# Altium schematic symbol library CPU_STM_080816.SchLib: 227 symbols (part 5 of 5)
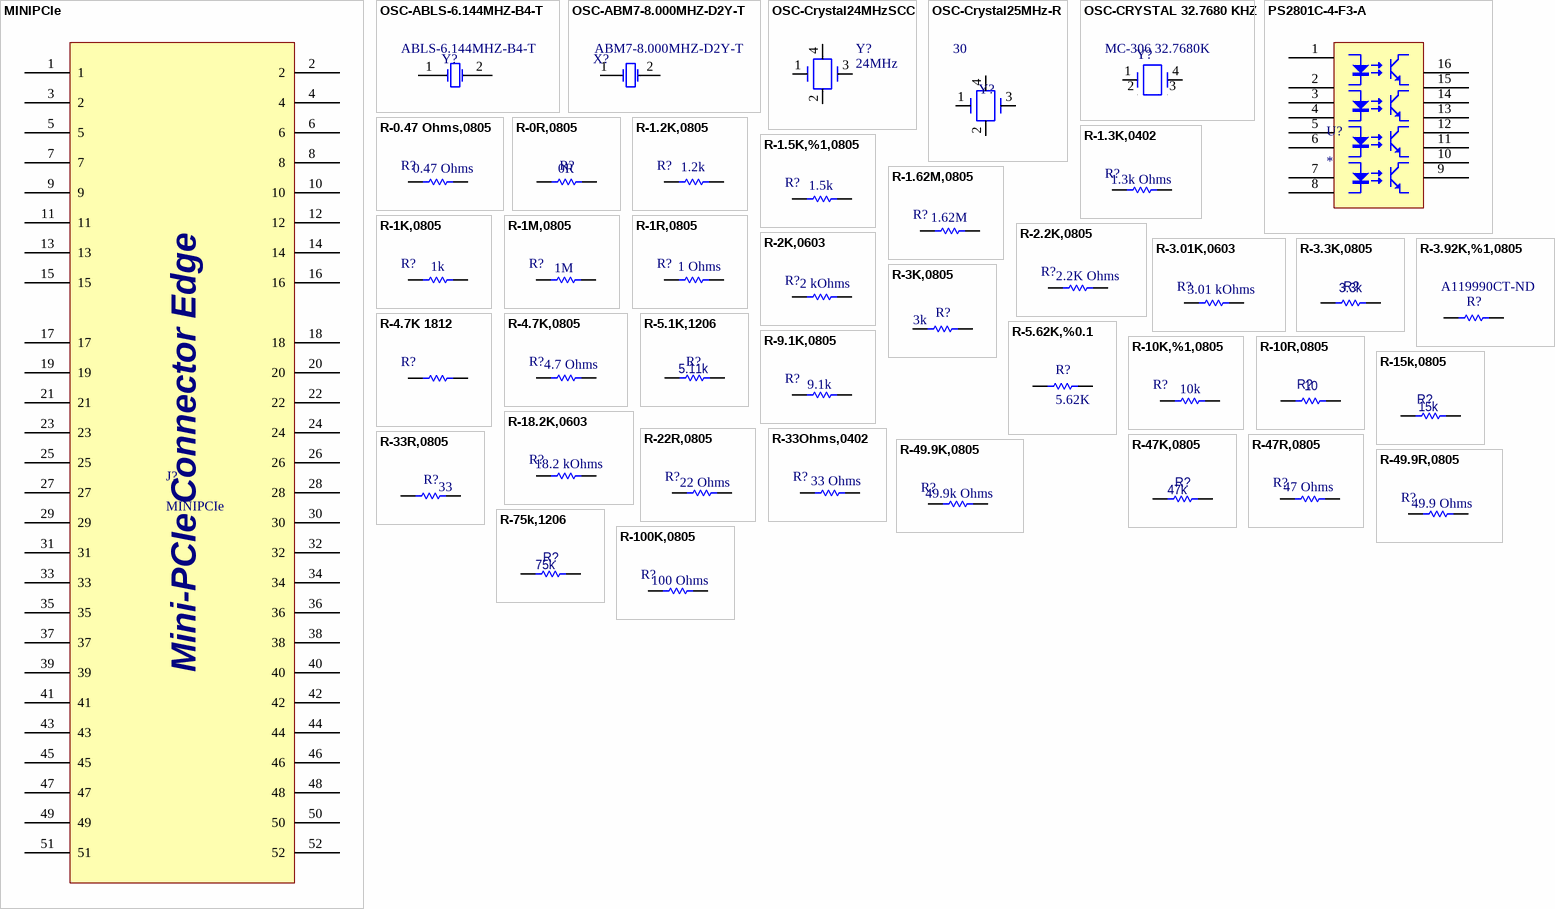
[diagram p15: symbols MINIPCIe to R-100K,0805]

## R-22R,0805
designator R?, comment 22 Ohms
PANASONIC - ERJP06F22R0V - RESISTOR, THICK FILM, 22 OHM, 0.5W, 1%; Product Range: PANASONIC - ERJ Series; Power Rating: 500; Resistor Case Style: 0805 [2012 Metric]; Temperature Coefficient: ± 300; Voltage Rating: 400; SVHC: No SVHC (16-Dec-2013); External Depth: 1.25; External Length / Height: 0.6; External Width: 2; Overload Voltage: 600; Reel Quantity: 5000; Resistor Mounting: SMD; Supplier 1: Farnell; Manufacturer: PANASONIC; Manufacturer Part Number: ERJP06F22R0V; RoHS: YES; Stock 1: 4425; Pricing 1: 25=0,139, 100=0,113, 500=0,0897, 1000=0,0676, 5000=0,065 (EUR); Resistance Tolerance: ± 1%; Resistor Element Material: Thick Film; Packaging: Cut Tape; MSL: -; No. of Pins: 2; Operating Temperature Max: 155; Operating Temperature Min: -55; Operating Temperature Range: -55°C to +155; Series: ERJP<!--FANDB--><div class="features-and-benefits-container"></div>; ComponentLink1URL: http://www.farnell.com/datasheets/1801181.pdf; ComponentLink1Description: http://www.farnell.com/datasheets/1801181.pdf; ComponentLink2URL: http://www.farnell.com/datasheets/1718548.pdf; ComponentLink2Description: http://www.farnell.com/datasheets/1718548.pdf; ComponentLink3URL: http://www.farnell.com/cad/1697897.zip; ComponentLink3Description: http://www.farnell.com/cad/1697897.zip; Supplier Part Number 1: 1750733; Resistance: 22 Ohms
footprint R0805
pins: 1, 2

## R-33Ohms,0402
designator R?  Resistance (Ohms): 33 Ohms
MULTICOMP - MC0805S8F330JT5E - RESISTOR, THICK FILM, 33 OHM, 125mW, 1%; Manufacturer: Panasonic Electronic Components; Manufacturer Part Number: ERJ-2GEJ330X; Tolerance: ±5%; Power (Watts): 0.1W, 1/10W; Temperature Coefficient: ±200ppm/°C; Supplier 1: Digi-Key; RoHS: RoHS Compliant; Category: Resistors; Stock 1: 1898945; Pricing 1: 1=0.1, 50=0.0106, 100=0.0078, 250=0.00596, 500=0.00476, 1000=0.0035, 5000=0.00251 (USD); Packaging: Digi-Reel®; Composition: Thick Film; Features: Automotive AEC-Q200; Operating Temperature: -55°C ~ 155°C; Package / Case: 0402 (1005 Metric); Supplier Device Package: 0402; Size / Dimension: 0.039" L x 0.020" W (1.00mm x 0.50mm); Height: 0.016" (0.40mm); Number of Terminations: 2; ComponentLink1URL: http://industrial.panasonic.com/www-cgi/jvcr13pz.cgi?E+PZ+3+AOA0001+ERJ2GEJ330X+7+WW; ComponentLink1Description: http://industrial.panasonic.com/www-cgi/jvcr13pz.cgi?E+PZ+3+AOA0001+ERJ2GEJ330X+7+WW; Supplier Part Number 1: P33JDKR-ND
footprint 0402
pins: 1, 2

## R-33R,0805
designator R?, comment Resistance (Ohms): 33  (hidden comment: CPF0805B33RE)
RES SMD 33 OHM 0.1% 1/10W 0805; Manufacturer: TE Connectivity AMP Connectors; Power (Watts): 0.1W, 1/10W; Temperature Coefficient: ±25ppm/°C; Supplier 1: Digi-Key; Manufacturer Part Number: CPF0805B33RE; RoHS: RoHS Compliant; Category: Resistors; Stock 1: 5000; Pricing 1: 5000=0.08708, 10000=0.08514, 25000=0.08224, 50000=0.08063, 125000=0.07985 (USD); Packaging: Tape & Reel (TR); Part Status: Active; Tolerance: ±0.1%; Composition: Thin Film; Features: -; Operating Temperature: -55°C ~ 155°C; Package / Case: 0805 (2012 Metric); Supplier Device Package: 0805; Size / Dimension: 0.079" L x 0.049" W (2.00mm x 1.25mm); Height: 0.026" (0.65mm); Number of Terminations: 2; ComponentLink1URL: http://www.te.com/commerce/DocumentDelivery/DDEController?Action=srchrtrv&DocNm=1773200&DocType=DS&DocLang=English; ComponentLink1Description: http://www.te.com/commerce/DocumentDelivery/DDEController?Action=srchrtrv&DocNm=1773200&DocType=DS&DocLang=English; Supplier Part Number 1: A119975TR-ND
footprint R0805
pins: 1, 2

## R-47K,0805
designator R?, comment Resistance (Ohms): 47k  (hidden comment: RES SMD 47K OHM)
RES SMD 47K OHM 1% 1/8W 0805; Manufacturer: Samsung Electro-Mechanics America, Inc.; Manufacturer Part Number: RC2012F473CS; Power (Watts): 0.125W, 1/8W; Temperature Coefficient: ±100ppm/°C; Regulator Topology: Positive Adjustable; Voltage - Output: 1.24 V ~ 15 V; Current - Output: 3A; Voltage - Dropout (Typical): 0.45V @ 3A; Number of Regulators: 1; Voltage - Input: 3 V ~ 16 V; Supplier 1: Digi-Key; RoHS: RoHS Compliant; Category: Resistors; Stock 1: 29088; Pricing 1: 1=0.1, 10=0.022, 25=0.016, 50=0.0124, 100=0.0091, 500=0.00554, 1000=0.00408 (USD); Packaging: Cut Tape (CT); Part Status: Active; Tolerance: ±1%; Composition: Thick Film; Features: Moisture Resistant; Operating Temperature: -55°C ~ 155°C; Package / Case: 0805 (2012 Metric); Supplier Device Package: 0805; Size / Dimension: 0.079" L x 0.049" W (2.00mm x 1.25mm); Height: 0.024" (0.60mm); Number of Terminations: 2; Failure Rate: -; ComponentLink1URL: http://media.digikey.com/pdf/Data%20Sheets/Samsung%20PDFs/RC_Series_ds.pdf; ComponentLink1Description: http://media.digikey.com/pdf/Data%20Sheets/Samsung%20PDFs/RC_Series_ds.pdf; Supplier Part Number 1: 1276-5377-1-ND; Current - Limit (Min): 3A; Mounting Type: Surface Mount; ComponentLink2URL: http://www.microchip.com/mymicrochip/filehandler.aspx?ddocname=en580808; ComponentLink2Description: http://www.microchip.com/mymicrochip/filehandler.aspx?ddocname=en580808
footprint R0805
pins: 1, 2

## R-47R,0805
designator R?, comment 47 Ohms
Thick Film Resistors - SMD 0805 47ohms 1% Anti-Surge 0.5W; Manufacturer: Panasonic; Manufacturer Part Number: ERJ-P6WF47R0V; Power Rating: 500 mW (1/2 W); Voltage Rating: 150 V; Case Height: 0.65 mm; Case Length: 2 mm; Case Width: 1.25 mm; Product Status: New Product; Supplier 1: Mouser; RoHS: RoHS Compliant; Category: Thick Film Resistors - SMD; Stock 1: 9957; Pricing 1: 1=0.805, 10=0.336, 100=0.188, 1000=0.140, 5000=0.079, 10000=0.075 (USD); Operating Temperature Range: - 55 C to + 155 C; Package/Case: 0805 (2012 metric); Packaging: Reel; Product: Thick Film Resistors SMD; Series: ERJ P6W; Tolerance: 1 %; Type: Anti-Surge Thick Film Chip Resistors; Brand: Panasonic; Case Code - in: 0805; Case Code - mm: 2012; RoHS - Mouser: Y; Minimum Order Quantity: 1; Reeling: True; ComponentLink1URL: http://www.mouser.com/ds/2/315/Panasonic_ERJ__P6W-368903.pdf; ComponentLink1Description: http://www.mouser.com/ds/2/315/Panasonic_ERJ__P6W-368903.pdf; Supplier Part Number 1: 667-ERJ-P6WF47R0V; Resistance: 47 Ohms
footprint R0805
pins: 1, 2

## R-49.9K,0805
designator R?, comment 49.9k Ohms
RES 49.9K OHM 1/8W .1% 0805 SMD; Manufacturer: Panasonic Electronic Components; Manufacturer Part Number: ERA-6AEB4992V; Tolerance: ±0.1%; Power (Watts): 0.125W, 1/8W; Temperature Coefficient: ±25ppm/°C; Supplier 1: Digi-Key; RoHS: RoHS Compliant; Category: Resistors; Stock 1: 25646; Pricing 1: 1=0.63, 50=0.2494, 100=0.1924, 250=0.14964, 500=0.10546, 1000=0.07695 (USD); Packaging: Cut Tape (CT); Composition: Thin Film; Features: Automotive AEC-Q200 Qualified; Package / Case: 0805 (2012 Metric); Supplier Device Package: 0805; Size / Dimension: 0.079" L x 0.049" W (2.00mm x 1.25mm); Height: 0.024" (0.60mm); Number of Terminations: 2; ComponentLink1URL: http://industrial.panasonic.com/www-cgi/jvcr13pz.cgi?E+PZ+3+AOA0026+ERA6AEB4992V+7+WW; ComponentLink1Description: http://industrial.panasonic.com/www-cgi/jvcr13pz.cgi?E+PZ+3+AOA0026+ERA6AEB4992V+7+WW; Supplier Part Number 1: P49.9KDACT-ND; Resistance (Ohms): 49.9k Ohms
footprint R0805
pins: 1, 2

## R-49.9R,0805
designator R?, comment 49.9 Ohms
PANASONIC - ERJP06F49R9V - RESISTOR, THICK FILM, 49.9 OHM, 0.5W, 1%; Product Range: PANASONIC - ERJ Series; Power Rating: 500; Resistor Case Style: 0805 [2012 Metric]; Temperature Coefficient: ± 100; Voltage Rating: 400; SVHC: No SVHC (16-Dec-2013; Supplier 1: Farnell; Manufacturer: PANASONIC; Manufacturer Part Number: ERJP06F49R9V; RoHS: YES; Stock 1: 3370; Pricing 1: 25=0,078, 100=0,0728, 500=0,0429, 1000=0,0312, 5000=0,0234 (EUR); Resistance Tolerance: ± 1%; Resistor Element Material: Thick Film; Packaging: Cut Tape; MSL: -; ComponentLink1URL: http://www.farnell.com/datasheets/1801181.pdf; ComponentLink1Description: http://www.farnell.com/datasheets/1801181.pdf; ComponentLink2URL: http://www.farnell.com/datasheets/1718548.pdf; ComponentLink2Description: http://www.farnell.com/datasheets/1718548.pdf; Supplier Part Number 1: 2312274; Resistance: 49.9 Ohms
footprint R0805
pins: 1, 2

## R-75k,1206
designator R?, comment Resistance (Ohms): 75k  (hidden comment: RES SMD 75K OHM)
RES SMD 75K OHM 1% 1/4W 1206; Manufacturer: Vishay Dale; Manufacturer Part Number: CRCW120675K0FKEA; Power (Watts): 0.25W, 1/4W; Temperature Coefficient: ±100ppm/°C; Supplier 1: Digi-Key; RoHS: RoHS Compliant; Category: Resistors; Stock 1: 28544; Pricing 1: 1=0.1, 10=0.054, 25=0.0392, 50=0.03, 100=0.0221, 250=0.01684, 500=0.01346, 1000=0.00991, 2500=0.0086 (USD); Packaging: Cut Tape (CT); Part Status: Active; Tolerance: ±1%; Composition: Thick Film; Features: Automotive AEC-Q200; Operating Temperature: -55°C ~ 155°C; Package / Case: 1206 (3216 Metric); Supplier Device Package: 1206; Size / Dimension: 0.126" L x 0.063" W (3.20mm x 1.60mm); Height: 0.024" (0.60mm); Number of Terminations: 2; Failure Rate: -; ComponentLink1URL: http://www.vishay.com/docs/20035/dcrcwe3.pdf; ComponentLink1Description: http://www.vishay.com/docs/20035/dcrcwe3.pdf; Supplier Part Number 1: 541-75.0KFCT-ND
footprint R1206
pins: 1, 2

## R-100K,0805
designator R?, comment 100 Ohms
TE CONNECTIVITY / NEOHM - CPF0805B100KE1 - RESISTOR, 0805, 100K; Product Range: TE CONNECTIVITY - CPF Series; Power Rating: 100; Resistance Tolerance: ± 0.1%; Resistor Case Style: 0805 [2012 Metric]; Resistor Element Material: Thin Film; Temperature Coefficient: ± 25; Voltage Rating: 200; External Depth: 0.5; External Length / Height: 2; External Width: 1.25; Resistor Mounting: SMD; Supplier 1: Farnell; Manufacturer: TE CONNECTIVITY / NEOHM; Manufacturer Part Number: CPF0805B100KE1; RoHS: YES; Stock 1: 548; Pricing 1: 10=0,429, 50=0,325, 100=0,313, 500=0,273, 1000=0,235 (EUR); Packaging: Cut Tape; MSL: -; No. of Pins: 2; Operating Temperature Max: 155; Operating Temperature Min: -55; Operating Temperature Range: -55°C to +155; Series: CPF<!--FANDB--><div class="features-and-benefits-container"></div>; ComponentLink1URL: http://www.tycoelectronics.com/commerce/DocumentDelivery/DDEController?Action=srchrtrv&DocNm=1614883&DocType=Customer+Drawing&DocLang=English; ComponentLink1Description: http://www.tycoelectronics.com/commerce/DocumentDelivery/DDEController?Action=srchrtrv&DocNm=1614883&DocType=Customer+Drawing&DocLang=English; ComponentLink2URL: http://www.tycoelectronics.com/commerce/DocumentDelivery/DDEController?Action=srchrtrv&DocNm=1773200&DocType=Data+Sheet&DocLang=English; ComponentLink2Description: http://www.tycoelectronics.com/commerce/DocumentDelivery/DDEController?Action=srchrtrv&DocNm=1773200&DocType=Data+Sheet&DocLang=English; Supplier Part Number 1: 1697458RL; Resistance: 100 Ohms
footprint R0805
pins: 1, 2

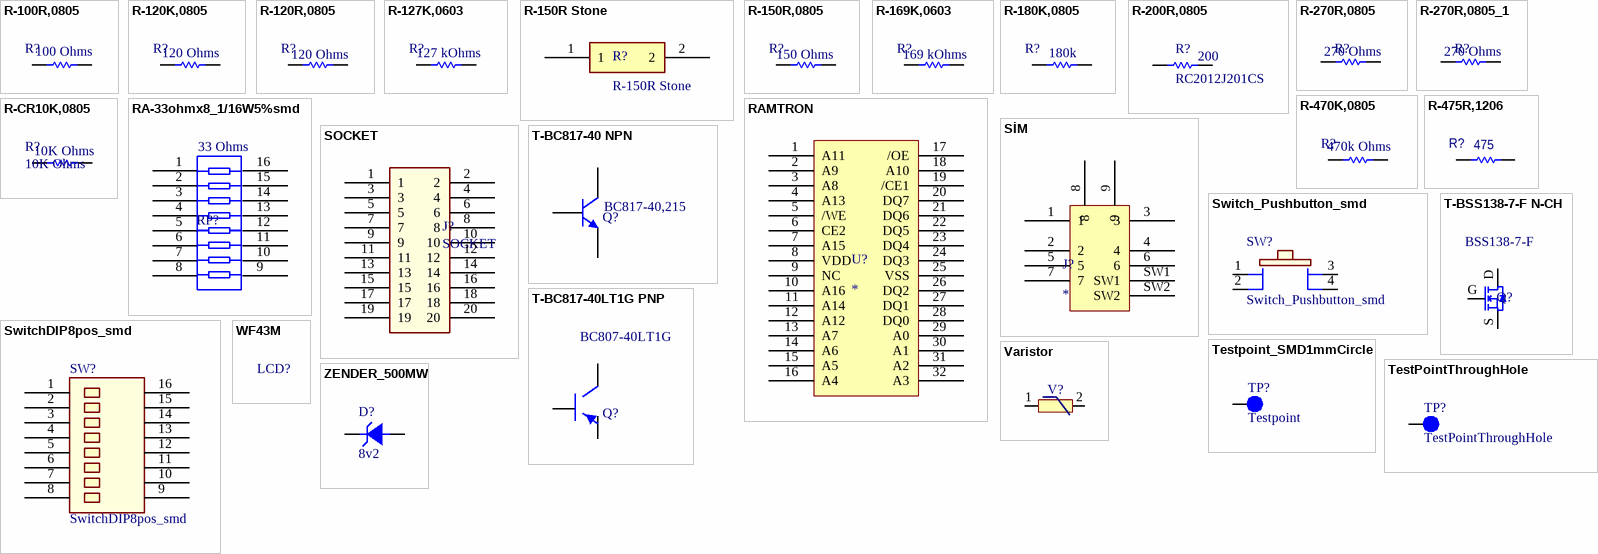
[diagram p11: symbols R-100R,0805 to ZENDER_500MW]

## R-100R,0805
designator R?, comment 100 Ohms
RES 100 OHM 1/8W 1% 0805 SMD; Manufacturer: Rohm Semiconductor; Manufacturer Part Number: MCR10ERTF1000; Power (Watts): 0.125W, 1/8W; Temperature Coefficient: ±100ppm/°C; Supplier 1: Digi-Key; RoHS: RoHS Compliant; Category: Resistors; Stock 1: 27803; Pricing 1: 1=0.1, 10=0.027, 25=0.0196, 100=0.0109, 250=0.00832, 500=0.00666, 1000=0.0049 (USD); Packaging: Cut Tape (CT); Tolerance: ±1%; Composition: Thick Film; Features: -; Package / Case: 0805 (2012 Metric); Supplier Device Package: 0805 (2012 Metric); Size / Dimension: 0.079" L x 0.049" W (2.00mm x 1.25mm); Height: 0.024" (0.60mm); Number of Terminations: 2; ComponentLink1URL: http://rohmfs.rohm.com/en/products/databook/datasheet/passive/resistor/chip_resistor/mcr_g.pdf; ComponentLink1Description: http://rohmfs.rohm.com/en/products/databook/datasheet/passive/resistor/chip_resistor/mcr_g.pdf; Supplier Part Number 1: RHM100CHCT-ND; Resistance (Ohms): 100 Ohms
footprint R0805
pins: 1, 2

## R-120K,0805
designator R?, comment 120 Ohms
TE CONNECTIVITY - CRGH0805F120K - RESISTOR, POWER, 120K, 0.33W, 1%, 0805; Product Range: TE CONNECTIVITY - CRG Series; Power Rating: 330; Resistor Case Style: 0805 [2012 Metric]; Resistor Element Material: Thick Film; Temperature Coefficient: ± 100; Voltage Rating: 150; Supplier 1: Farnell; Manufacturer: TE CONNECTIVITY; Manufacturer Part Number: CRGH0805F120K; RoHS: YES; Stock 1: 4540; Pricing 1: 10=0,0243, 50=0,0191, 100=0,0156, 1000=0,0122, 5000=0,0087 (EUR); Resistance Tolerance: ± 1%; Packaging: Cut Tape; MSL: -<!--FANDB--><div class="features-and-benefits-container"></div>; ComponentLink1URL: http://www.farnell.com/datasheets/1755795.pdf; ComponentLink1Description: http://www.farnell.com/datasheets/1755795.pdf; Supplier Part Number 1: 2332099RL; Resistance: 120 Ohms
footprint R0805
pins: 1, 2

## R-120R,0805
designator R?, comment 120 Ohms
RES SMD 120 OHM 1% 1/8W 0805; Manufacturer: Bourns Inc.; Manufacturer Part Number: CR0805-FX-1200GLF; Power (Watts): 0.125W, 1/8W; Temperature Coefficient: ±100ppm/°C; Supplier 1: Digi-Key; RoHS: RoHS Compliant; Category: Resistors; Stock 1: 20000; Pricing 1: 10000=0.00792, 30000=0.00696, 50000=0.00638, 100000=0.00625 (USD); Packaging: Tape & Reel (TR); Tolerance: ±1%; Composition: Thick Film; Features: Moisture Resistant; Operating Temperature: -55°C ~ 155°C; Package / Case: 0805 (2012 Metric); Supplier Device Package: 0805; Size / Dimension: 0.079" L x 0.049" W (2.00mm x 1.25mm); Height: 0.024" (0.60mm); Number of Terminations: 2; ComponentLink1URL: http://www.bourns.com/docs/Product-Datasheets/CHPREZTR.pdf; ComponentLink1Description: http://www.bourns.com/docs/Product-Datasheets/CHPREZTR.pdf; Supplier Part Number 1: CR0805-FX-1200GLFTR-ND; Resistance (Ohms): 120 Ohms
footprint R0805
pins: 1, 2

## R-127K,0603
designator R?, comment 127 kOhms
Thick Film Resistors - SMD 127K OHM 1%; Manufacturer: Yageo; Manufacturer Part Number: RC0603FR-07127KL; Power Rating: 100 mW; Temperature Coefficient: 100 PPM / C; Voltage Rating: 50 V; Case Height: 0.45 mm; Case Length: 1.6 mm; Case Width: 0.8 mm; Supplier 1: Mouser; RoHS: RoHS Compliant By Exemption; Category: Thick Film Resistors - SMD; Stock 1: 0; Pricing 1: 5000=0.003, 10000=0.001 (AUD); Operating Temperature Range: - 55 C to + 155 C; Package / Case: 0603 (1608 metric); Packaging: Reel; Product: Thick Film Resistors General Purpose; Series: RC; Tolerance: 1 %; Type: General Purpose Chip Resistor Surface Mount; Brand: Yageo; Case Code - in: 0603; Case Code - mm: 1608; Product Category: 0603 SMD Chip Resistors; Standard Pack Qty: 5000; RoHS - Mouser: Y; Minimum Order Quantity: 5000; Reeling: True; ComponentLink1URL: http://www.mouser.com/ds/2/447/RC0603-272842.pdf; ComponentLink1Description: http://www.mouser.com/ds/2/447/RC0603-272842.pdf; Supplier Part Number 1: 603-RC0603FR-07127KL; Resistance: 127 kOhms
footprint 0603 (0603_CC)
pins: 1, 2

## R-150R Stone
designator R?
150R Stone
footprint STONE 5W
pins: 1, 2

## R-150R,0805
designator R?, comment 150 Ohms
TE CONNECTIVITY / NEOHM - CPF0805B150RE1 - RESISTOR, 0805, 150R; Product Range: TE CONNECTIVITY - CPF Series; Power Rating: 100; Resistance Tolerance: ± 0.1%; Resistor Case Style: 0805 [2012 Metric]; Resistor Element Material: Thin Film; Temperature Coefficient: ± 25; Voltage Rating: 200; External Depth: 0.5; External Length / Height: 2; External Width: 1.25; Resistor Mounting: SMD; Supplier 1: Farnell; Manufacturer: TE CONNECTIVITY / NEOHM; Manufacturer Part Number: CPF0805B150RE1; RoHS: YES; Stock 1: 749; Pricing 1: 10=0,429, 50=0,338, 100=0,324, 500=0,269, 1000=0,235 (EUR); Packaging: Cut Tape; MSL: -; No. of Pins: 2; Operating Temperature Max: 155; Operating Temperature Min: -55; Operating Temperature Range: -55°C to +155; Series: CPF<!--FANDB--><div class="features-and-benefits-container"></div>; ComponentLink1URL: http://www.tycoelectronics.com/commerce/DocumentDelivery/DDEController?Action=srchrtrv&DocNm=1614884&DocType=Customer+Drawing&DocLang=English; ComponentLink1Description: http://www.tycoelectronics.com/commerce/DocumentDelivery/DDEController?Action=srchrtrv&DocNm=1614884&DocType=Customer+Drawing&DocLang=English; ComponentLink2URL: http://www.tycoelectronics.com/commerce/DocumentDelivery/DDEController?Action=srchrtrv&DocNm=1773200&DocType=Data+Sheet&DocLang=English; ComponentLink2Description: http://www.tycoelectronics.com/commerce/DocumentDelivery/DDEController?Action=srchrtrv&DocNm=1773200&DocType=Data+Sheet&DocLang=English; Supplier Part Number 1: 1697421RL; Resistance: 150 Ohms
footprint R0805
pins: 1, 2

## R-169K,0603
designator R?, comment 169 kOhms
Thick Film Resistors - SMD 169K OHM 1%; Manufacturer: Yageo; Manufacturer Part Number: RC0603FR-07169KL; Power Rating: 100 mW; Temperature Coefficient: 100 PPM / C; Voltage Rating: 50 V; Case Height: 0.45 mm; Case Length: 1.6 mm; Case Width: 0.8 mm; Supplier 1: Mouser; RoHS: RoHS Compliant; Category: Thick Film Resistors - SMD; Stock 1: 20419; Pricing 1: 5000=0.003, 10000=0.001 (AUD); Operating Temperature Range: - 55 C to + 155 C; Package / Case: 0603 (1608 metric); Packaging: Reel; Product: Thick Film Resistors General Purpose; Series: RC; Tolerance: 1 %; Type: General Purpose Chip Resistor Surface Mount; Brand: Yageo; Case Code - in: 0603; Case Code - mm: 1608; Product Category: 0603 SMD Chip Resistors; Standard Pack Qty: 5000; RoHS - Mouser: Y; Minimum Order Quantity: 5000; Reeling: True; ComponentLink1URL: http://www.mouser.com/ds/2/447/RC0603-272842.pdf; ComponentLink1Description: http://www.mouser.com/ds/2/447/RC0603-272842.pdf; Supplier Part Number 1: 603-RC0603FR-07169KL; Resistance: 169 kOhms
footprint 0603 (0603_CC)
pins: 1, 2

## R-180K,0805
designator R?, comment 180k
RES 180K OHM 1/8W 1% 0805 SMD; Manufacturer: Vishay Dale; Manufacturer Part Number: CRCW0805180KFKEA; Power (Watts): 0.125W, 1/8W; Temperature Coefficient: ±100ppm/°C; Supplier 1: Digi-Key; RoHS: RoHS Compliant; Category: Resistors; Stock 1: 42364; Pricing 1: 10=0.089, 50=0.0482, 200=0.02765, 1000=0.01885 (USD); Packaging: Digi-Reel®; Tolerance: ±1%; Composition: Thick Film; Features: Automotive AEC-Q200 Qualified; Package / Case: 0805 (2012 Metric); Supplier Device Package: 0805 (2012 Metric); Size / Dimension: 0.079" L x 0.049" W (2.00mm x 1.25mm); Height: 0.020" (0.50mm); Number of Terminations: 2; ComponentLink1URL: http://www.vishay.com/docs/20035/dcrcwe3.pdf; ComponentLink1Description: http://www.vishay.com/docs/20035/dcrcwe3.pdf; Supplier Part Number 1: 541-180KCDKR-ND; Resistance (Ohms): 180k
footprint R0805
pins: 1, 2

## R-200R,0805
designator R?, comment RC2012J201CS  Resistance (Ohms): 200
RES SMD 200 OHM 5% 1/8W 0805; Manufacturer: Samsung Electro-Mechanics America, Inc.; Power (Watts): 0.125W, 1/8W; Temperature Coefficient: ±100ppm/°C; Supplier 1: Digi-Key; Manufacturer Part Number: RC2012J201CS; RoHS: RoHS Compliant; Category: Resistors; Stock 1: 31152; Pricing 1: 1=0.1, 10=0.035, 25=0.0252, 50=0.0192, 100=0.0142, 250=0.0108, 500=0.00864, 1000=0.00636 (USD); Packaging: Cut Tape (CT); Part Status: Active; Tolerance: ±5%; Composition: Thick Film; Features: Moisture Resistant; Operating Temperature: -55°C ~ 155°C; Package / Case: 0805 (2012 Metric); Supplier Device Package: 0805; Size / Dimension: 0.079" L x 0.049" W (2.00mm x 1.25mm); Height - Seated (Max): 0.026" (0.65mm); Number of Terminations: 2; Failure Rate: -; ComponentLink1URL: http://media.digikey.com/pdf/Data%20Sheets/Samsung%20PDFs/RC_Series_ds.pdf; ComponentLink1Description: http://media.digikey.com/pdf/Data%20Sheets/Samsung%20PDFs/RC_Series_ds.pdf; Supplier Part Number 1: 1276-5514-1-ND
footprint 0805
pins: 1, 2

## R-270R,0805
designator R?, comment Resistance: 270 Ohms  (hidden comment: 270R)
TE CONNECTIVITY / NEOHM 270R Thin Film; Manufacturer Part Number: CPF0805B270RE1; Product Range: TE CONNECTIVITY - CPF Series; Power Rating: 100; Resistance Tolerance: ± 0.1%; Resistor Case Style: 0805 [2012 Metric]; Temperature Coefficient: ± 25; Voltage Rating: 200; External Depth: 0.5; External Length / Height: 2; External Width: 1.25; Resistor Mounting: SMD; Supplier 1: Farnell; Manufacturer: TE CONNECTIVITY / NEOHM; RoHS: YES; Stock 1: 755; Pricing 1: 10=0,43, 50=0,34, 100=0,32, 500=0,27, 1000=0,24 (EUR); Resistor Element Material: Thin Film; Packaging: Cut Tape; MSL: -; No. of Pins: 2; Operating Temperature Max: 155; Operating Temperature Min: -55; Operating Temperature Range: -55°C to +155; Series: CPF<!--FANDB--><div class="features-and-benefits-container"></div>; ComponentLink1URL: http://www.tycoelectronics.com/commerce/DocumentDelivery/DDEController?Action=srchrtrv&DocNm=1614884&DocType=Customer+Drawing&DocLang=English; ComponentLink1Description: http://www.tycoelectronics.com/commerce/DocumentDelivery/DDEController?Action=srchrtrv&DocNm=1614884&DocType=Customer+Drawing&DocLang=English; ComponentLink2URL: http://www.tycoelectronics.com/commerce/DocumentDelivery/DDEController?Action=srchrtrv&DocNm=1773200&DocType=Data+Sheet&DocLang=English; ComponentLink2Description: http://www.tycoelectronics.com/commerce/DocumentDelivery/DDEController?Action=srchrtrv&DocNm=1773200&DocType=Data+Sheet&DocLang=English; Supplier Part Number 1: 1697424
footprint R0805
pins: 1, 2

## R-270R,0805_1
designator R?, comment Resistance: 270 Ohms  (hidden comment: 270R)
TE CONNECTIVITY / NEOHM 270R Thin Film; Manufacturer Part Number: CPF0805B270RE1; Product Range: TE CONNECTIVITY - CPF Series; Power Rating: 100; Resistance Tolerance: ± 0.1%; Resistor Case Style: 0805 [2012 Metric]; Temperature Coefficient: ± 25; Voltage Rating: 200; External Depth: 0.5; External Length / Height: 2; External Width: 1.25; Resistor Mounting: SMD; Supplier 1: Farnell; Manufacturer: TE CONNECTIVITY / NEOHM; RoHS: YES; Stock 1: 755; Pricing 1: 10=0,43, 50=0,34, 100=0,32, 500=0,27, 1000=0,24 (EUR); Resistor Element Material: Thin Film; Packaging: Cut Tape; MSL: -; No. of Pins: 2; Operating Temperature Max: 155; Operating Temperature Min: -55; Operating Temperature Range: -55°C to +155; Series: CPF<!--FANDB--><div class="features-and-benefits-container"></div>; ComponentLink1URL: http://www.tycoelectronics.com/commerce/DocumentDelivery/DDEController?Action=srchrtrv&DocNm=1614884&DocType=Customer+Drawing&DocLang=English; ComponentLink1Description: http://www.tycoelectronics.com/commerce/DocumentDelivery/DDEController?Action=srchrtrv&DocNm=1614884&DocType=Customer+Drawing&DocLang=English; ComponentLink2URL: http://www.tycoelectronics.com/commerce/DocumentDelivery/DDEController?Action=srchrtrv&DocNm=1773200&DocType=Data+Sheet&DocLang=English; ComponentLink2Description: http://www.tycoelectronics.com/commerce/DocumentDelivery/DDEController?Action=srchrtrv&DocNm=1773200&DocType=Data+Sheet&DocLang=English; Supplier Part Number 1: 1697424
footprint R0805
pins: 1, 2

## R-470K,0805
designator R?, comment 470k Ohms
RES 470K OHM 1/8W 1% 0805 SMD; Manufacturer: Rohm Semiconductor; Manufacturer Part Number: MCR10ERTF4703; Power (Watts): 0.125W, 1/8W; Temperature Coefficient: ±100ppm/°C; Supplier 1: Digi-Key; RoHS: RoHS Compliant; Category: Resistors; Stock 1: 10000; Pricing 1: 5000=0.00319, 10000=0.00277, 25000=0.00244, 50000=0.00223, 125000=0.00219 (USD); Packaging: Tape & Reel (TR); Tolerance: ±1%; Composition: Thick Film; Features: -; Package / Case: 0805 (2012 Metric); Supplier Device Package: 0805 (2012 Metric); Size / Dimension: 0.079" L x 0.049" W (2.00mm x 1.25mm); Height: 0.024" (0.60mm); Number of Terminations: 2; ComponentLink1URL: http://rohmfs.rohm.com/en/products/databook/datasheet/passive/resistor/chip_resistor/mcr_g.pdf; ComponentLink1Description: http://rohmfs.rohm.com/en/products/databook/datasheet/passive/resistor/chip_resistor/mcr_g.pdf; Supplier Part Number 1: RHM470KCHTR-ND; Resistance (Ohms): 470k Ohms
footprint R0805
pins: 1, 2

## R-475R,1206
designator R?, comment Resistance (Ohms): 475  (hidden comment: RES SMD 475 OHM 1206)
RES SMD 475 OHM 1% 1/2W 1206; Manufacturer: Stackpole Electronics Inc.; Manufacturer Part Number: RNCP1206FTD475R; Power (Watts): 0.5W, 1/2W; Temperature Coefficient: ±100ppm/°C; Supplier 1: Digi-Key; RoHS: RoHS Compliant; Category: Resistors; Stock 1: 673911; Pricing 1: 1=0.1, 10=0.049, 50=0.0272, 100=0.0201, 250=0.01536, 500=0.01228, 1000=0.00904, 2500=0.00784 (USD); Packaging: Cut Tape (CT); Part Status: Active; Tolerance: ±1%; Composition: Thin Film; Features: Anti-Sulfur, Moisture Resistant; Operating Temperature: -55°C ~ 155°C; Package / Case: 1206 (3216 Metric); Supplier Device Package: 1206; Size / Dimension: 0.122" L x 0.059" W (3.10mm x 1.50mm); Height: 0.024" (0.60mm); Number of Terminations: 2; Failure Rate: -; ComponentLink1URL: http://www.seielect.com/catalog/SEI-RNCP.pdf; ComponentLink1Description: http://www.seielect.com/catalog/SEI-RNCP.pdf; Supplier Part Number 1: RNCP1206FTD475RCT-ND
footprint R1206
pins: 1, 2

## R-CR10K,0805
designator R?, comment 10K Ohms
BOURNS - CR0805-FX-1002GLF - RESISTOR, 10K, 0.125W, 1%; Product Range: BOURNS - CR Series; Power Rating: 125; Resistor Case Style: 0805 [2012 Metric]; Resistor Element Material: Thick Film; Temperature Coefficient: ± 100; Voltage Rating: 150; SVHC: No SVHC (16-Jun-2014); Resistor Mounting: SMD<!--FANDB--><div class="features-and-benefits-container"></div>; Supplier 1: Farnell; Manufacturer: BOURNS; Manufacturer Part Number: CR0805-FX-1002GLF; RoHS: YES; Stock 1: 23336; Pricing 1: 50=0,0299, 250=0,0234, 1000=0,0221, 5000=0,0156, 10000=0,0143 (EUR); Resistance Tolerance: ± 1%; Packaging: Cut Tape; MSL: MSL 1 - Unlimited; ComponentLink1URL: http://www.farnell.com/datasheets/1845293.pdf; ComponentLink1Description: http://www.farnell.com/datasheets/1845293.pdf; Supplier Part Number 1: 2008384; Resistance: 10K Ohms
footprint R0805
pins: 1, 2

## RA-33ohmx8_1/16W5%smd
designator RP?  Resistance (Ohms): 33 Ohms  (hidden comment: RA-33ohmx8_1/16W5%smd)
RES ARRAY 8 RES 33 OHM 1506; Manufacturer: Panasonic Electronic Components; Manufacturer Part Number: EXB-2HV330JV; Circuit Type: Isolated; Tolerance: ±5%; Number of Resistors: 8; Power Per Element: 62.5mW; Temperature Coefficient: ±200ppm/°C; Capacitance: 33pF; Voltage - Rated: 50V; Supplier 1: Digi-Key; RoHS: RoHS Compliant; Category: Resistors; Stock 1: 170000; Pricing 1: 5000=0.0375, 10000=0.035, 25000=0.03325, 50000=0.03258, 125000=0.03188 (USD); Packaging: Tape & Reel (TR); Number of Pins: 16; Operating Temperature: -55°C ~ 125°C; Applications: Automotive AEC-Q200; Mounting Type: Surface Mount; Package / Case: 1506, Convex, Long Side Terminals; Supplier Device Package: 1506; Size / Dimension: 0.150" L x 0.063" W (3.80mm x 1.60mm); Height: 0.022" (0.55mm); ComponentLink1URL: http://media.digikey.com/pdf/Data%20Sheets/Panasonic%20Resistors%20Thermistors%20PDFs/EXB_Series.pdf; ComponentLink1Description: http://media.digikey.com/pdf/Data%20Sheets/Panasonic%20Resistors%20Thermistors%20PDFs/EXB_Series.pdf; Supplier Part Number 1: Y1330TR-ND; Supplier 2: Digi-Key; Stock 2: 80106; Pricing 2: 1=0.1, 10=0.02, 25=0.0144, 50=0.0108, 100=0.0088, 250=0.00732, 500=0.00626, 1000=0.00492 (USD); Part Status: Active; Ratings: -; Height - Seated (Max): -; Thickness (Max): 0.030" (0.75mm); Lead Spacing: -; Features: -; Lead Style: -; ComponentLink2URL: http://www.samsungsem.com/kr/support/product-search/mlcc/__icsFiles/afieldfile/2016/08/18/S_CL21C330JBANNNC.pdf; ComponentLink2Description: http://www.samsungsem.com/kr/support/product-search/mlcc/__icsFiles/afieldfile/2016/08/18/S_CL21C330JBANNNC.pdf
footprint sm_rpak_exb-2hv
pins: 1, 2, 3, 4, 5, 6, 7, 8, 9, 10, 11, 12, 13, 14, 15, 16

## RAMTRON
designator U?
Supplier 1: Digi-Key; Supplier Part Number 1: FM28V100-TGRA-ND
footprint 32-TSOP (SOP, 32-Leads, Body 11.9x8.1mm, Pitch 0.5mm, IPC Medium Density)
pins: 1 A11, 2 A9, 3 A8, 4 A13, 5 /WE, 6 CE2, 7 A15, 8 VDD, 9 NC, 10 A16, 11 A14, 12 A12, 13 A7, 14 A6, 15 A5, 16 A4, 17 /OE, 18 A10, 19 /CE1, 20 DQ7, 21 DQ6, 22 DQ5, 23 DQ4, 24 DQ3, 25 VSS, 26 DQ2, 27 DQ1, 28 DQ0, 29 A0, 30 A1, 31 A2, 32 A3

## SİM
designator J?
SİM
footprint SIM
pins: 1, 2, 3, 4, 5, 6, 7, 8, 9, SW1, SW2

## SOCKET
designator J?
Headers & Wire Housings 10+10 DIL SMT GOLD VERTICAL SOCKET; Manufacturer: Harwin; Manufacturer Part Number: M50-3121045; Number of Positions: 20; Pitch: 1.27 mm; Supplier 1: Mouser; RoHS: RoHS Compliant; Category: Headers & Wire Housings; Stock 1: 293; Pricing 1: 1=3.03, 10=2.90, 25=2.54, 100=2.42, 250=2.12, 500=2.06, 1000=1.76, 2500=1.64, 5000=1.56 (USD); Contact Plating: Gold; Mounting Angle: Vertical; Number of Rows: 2; Product: Headers; Series: M50; Termination Style: SMD; Type: Socket Assembly; Brand: Harwin; Mounting Style: -; Contact Gender: Socket (Female); Product Category: 1.27mm, M50, Archer; Standard Pack Qty: 46; Tradename: ARCHER; RoHS - Mouser: Y; Minimum Order Quantity: 1; Reeling: False; ComponentLink1URL: http://www.mouser.com/ds/2/181/M50-312-351210.pdf; ComponentLink1Description: http://www.mouser.com/ds/2/181/M50-312-351210.pdf; Supplier Part Number 1: 855-M50-3121045
footprint SOCKET
pins: 1, 2, 3, 4, 5, 6 (power), 7, 8 (power), 9, 10 (power), 11, 12 (power), 13, 14, 15, 16 (power), 17, 18, 19, 20 (power)

## Switch_Pushbutton_smd
designator SW?
Switch Push Button tactile; TIIntPartnumber: 2W0018; MfrNum: B3SL-1022P; Mfr: Omron; PartName: SwitchPushMomTactilesmd; Cost10K: 0.25; Cost100: 0.340; Vendor: Digikey; DescriptiveText: Switch Push Button tactile; Descriptive_Text: Switch Push Button tactile
footprint SW_B3SL-1022P
pins: 1, 2, 3, 4

## SwitchDIP8pos_smd
designator SW?
DIP Switch 8pos smd; Mfr: CTS Electrocomponents; MfrNum: 219-8MST; TIIntPartnumber: 2W0017; Vendor: Digikey; Cost100: 0.85; Cost10K: 0.38; DescriptiveText: DIP Switch 8pos smd; PartName: SwitchDIP8pos_smd; Descriptive_Text: DIP Switch 8pos smd; Supplier 1: Digi-Key; Supplier Part Number 1: CT2198MST-ND
footprint 219-8MST
pins: 1, 2, 3, 4, 5, 6, 7, 8, 9, 10, 11, 12, 13, 14, 15, 16

## T-BC817-40 NPN
designator Q?, comment BC817-40,215
TRANS NPN 45V 0.5A SOT23; Manufacturer: NXP Semiconductors; Current - Collector (Ic) (Max): 500mA; Vce Saturation (Max) @ Ib, Ic: 700mV @ 50mA, 500mA; Current - Collector Cutoff (Max): 100nA (ICBO); DC Current Gain (hFE) (Min) @ Ic, Vce: 250 @ 100mA, 1V; Power - Max: 250mW; Frequency - Transition: 100MHz; Supplier 1: Digi-Key; RoHS: RoHS Compliant; Category: Discrete Semiconductor Products; Stock 1: 130982; Pricing 1: 1=0.14, 10=0.127, 100=0.0693, 500=0.04258, 1000=0.02905 (USD); Packaging: Cut Tape (CT); Transistor Type: NPN; Voltage - Collector Emitter Breakdown (Max): 45V; Mounting Type: Surface Mount; Package / Case: TO-236-3, SC-59, SOT-23-3; Supplier Device Package: SOT-23 (TO-236AB); ComponentLink1URL: http://www.nxp.com/documents/data_sheet/BC817_BC817W_BC337.pdf; ComponentLink1Description: http://www.nxp.com/documents/data_sheet/BC817_BC817W_BC337.pdf; Supplier Part Number 1: 568-1631-1-ND; Manufacturer Part Number: BC817-40,215
footprint SO-G3/Y1
pins: 1 B, 2 E, 3 C

## T-BC817-40LT1G PNP
designator Q?  Manufacturer Part Number: BC807-40LT1G  (hidden comment: T-BC817-40LT1G PNP)
TRANS PNP 45V 0.5A SOT23; Manufacturer: ON Semiconductor; Current - Collector (Ic) (Max): 500mA; Vce Saturation (Max) @ Ib, Ic: 700mV @ 50mA, 500mA; Current - Collector Cutoff (Max): 100nA (ICBO); DC Current Gain (hFE) (Min) @ Ic, Vce: 250 @ 100mA, 1V; Power - Max: 300mW; Frequency - Transition: 100MHz; Supplier 1: Digi-Key; RoHS: RoHS Compliant; Category: Discrete Semiconductor Products; Stock 1: 65312; Pricing 1: 1=0.13, 10=0.123, 100=0.0671, 500=0.04122, 1000=0.02812 (USD); Packaging: Digi-Reel®; Transistor Type: PNP; Voltage - Collector Emitter Breakdown (Max): 45V; Mounting Type: Surface Mount; Package / Case: TO-236-3, SC-59, SOT-23-3; Supplier Device Package: SOT-23-3 (TO-236); ComponentLink1URL: http://www.onsemi.com/pub_link/Collateral/BC807-16LT1-D.PDF; ComponentLink1Description: http://www.onsemi.com/pub_link/Collateral/BC807-16LT1-D.PDF; Supplier Part Number 1: BC807-40LT1GOSDKR-ND
footprint SO-G3/Y1
pins: 1 B, 2 E, 3 C

## T-BSS138-7-F N-CH
designator Q?  Manufacturer Part Number: BSS138-7-F  (hidden comment: T-BSS138-7-F N-CH)
MOSFET N-CH 50V 200MA SOT23-3; Manufacturer: Diodes Incorporated; FET Type: MOSFET N-Channel, Metal Oxide; FET Feature: Standard; Current - Continuous Drain (Id) @ 25°C: 200mA (Ta); Rds On (Max) @ Id, Vgs: 3.5 Ohm @ 220mA, 10V; Vgs(th) (Max) @ Id: 1.5V @ 250µA; Input Capacitance (Ciss) @ Vds: 50pF @ 10V; Power - Max: 300mW; Supplier 1: Digi-Key; RoHS: RoHS Compliant; Category: Discrete Semiconductor Products; Stock 1: 88355; Pricing 1: 1=0.34, 10=0.277, 100=0.1468, 500=0.0965, 1000=0.06575 (USD); Packaging: Cut Tape (CT); Drain to Source Voltage (Vdss): 50V; Gate Charge (Qg) @ Vgs: -; Operating Temperature: -55°C ~ 150°C (TJ); Mounting Type: Surface Mount; Package / Case: TO-236-3, SC-59, SOT-23-3; Supplier Device Package: SOT-23-3; ComponentLink1URL: http://www.diodes.com/_files/datasheets/ds30144.pdf; ComponentLink1Description: http://www.diodes.com/_files/datasheets/ds30144.pdf; Supplier Part Number 1: BSS138-FDICT-ND
footprint SOT23-3
pins: D 3, G 1, S 2

## Testpoint_SMD1mmCircle
designator TP?, comment Testpoint
Testpoint SMD; PartName: TestpointSMD1mmCircle; TIIntPartnumber: 2H0046; DescriptiveText: Testpoint SMD 1mm circle pad; Cost100: 0; Mfr: N/A; MfrNum: N/A; Vendor: N/A; Cost10K: 0; Descriptive_Text: Testpoint SMD 1mm circle pad
footprint tp_smd1mmcircle
pins: 1

## TestPointThroughHole
designator TP?
Testpoint TH; Mfr: Keystone Electronics; MfrNum: 5002; TIIntPartnumber: 2H0026; DescriptiveText: Testpoint Miniature Through Hole; Vendor: Digikey; Cost100: 0.163; Cost10K: 0.079; PartName: TestPointThroughHole; Descriptive_Text: Testpoint Miniature Through Hole
footprint TH_TP_5002
pins: 1

## Varistor
designator V?  (value not drawn)
VISHAY - MLV0805E30403T - VARISTOR, 0805, 40A, 4V; Product Range: MLV Series; Voltage Rating V AC: 4; Voltage Rating V DC: 5.6; Clamping Voltage Vc Max: 15.5; Varistor Case Style: 0805 [2012 Metric]; Varistor Type: Multilayer Varistor (MLV); Peak Surge Current @ 8/20µs: 40; Peak Energy (10/1000uS): 100; Capacitance: 860; External Depth: 1.25; External Length / Height: 1; External Width: 2; Reel Quantity: 4000; Supplier 1: Farnell; Manufacturer: VISHAY; Manufacturer Part Number: MLV0805E30403T; RoHS: YES; Pricing 1: 10=0.152, 100=0.134, 500=0.117, 1000=0.103, 4000=0.0909 (GBP); Operating Temperature Min: -55; Operating Temperature Max: 125; Clamping Voltage: 15.5; Clamping Voltage @ 8/20µs Max: 15.5; Operating Temperature Range: -55°C to +125; Packaging: Cut Tape; Peak Pulse Current IPP @ 8/20µs: 40; Suppressor Type: Varistor; Surge Current: 40; ComponentLink1URL: http://www.farnell.com/datasheets/459634.pdf; ComponentLink1Description: http://www.farnell.com/datasheets/459634.pdf; Supplier Part Number 1: 1761095RL
footprint 0805
pins: 1, 2

## WF43M
designator LCD?  (value not drawn)
footprint WF43M
3 alternate drawings of the same symbol

## ZENDER_500MW
designator D?, comment value 8v2  (hidden comment: 500mW Zener)
500mW Zener Diode; Supplier 1: Farnell; Supplier Part Number 1: 1700905
footprint HEADER,2PİN
pins: 1 C, 2 A